# EAGLE library part XBEE-BREAKOUT (library RocketControlBoard)
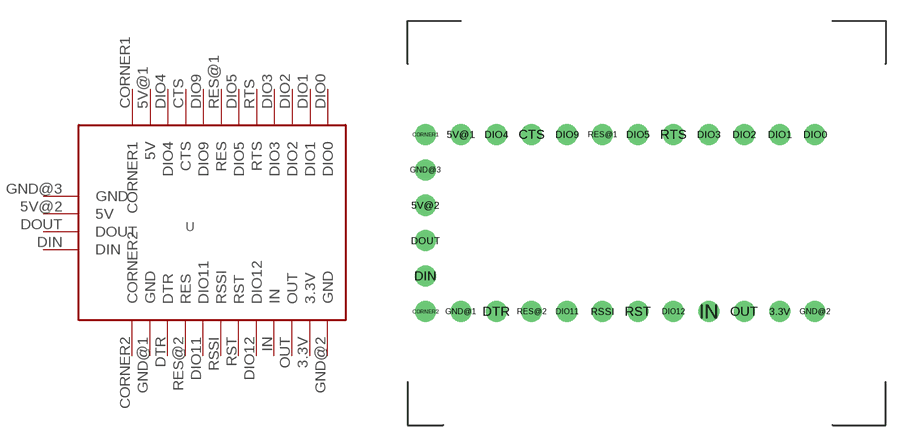
[diagram p14: symbol with the pads of XBEE-BREAKOUT; footprint XBEE-BREAKOUT]

Designator prefix -

## XBEE-BREAKOUT  [XBEE-BREAKOUT]
3.3V  3.3V
5V@1  5V
5V@2  5V
CORNER1  CORNER1
CORNER2  CORNER2
CTS  CTS
DIN  DIN
DIO0  DIO0
DIO1  DIO1
DIO2  DIO2
DIO3  DIO3
DIO4  DIO4
DIO5  DIO5
DIO9  DIO9
DIO11  DIO11
DIO12  DIO12
DOUT  DOUT
DTR  DTR
GND@1  GND
GND@2  GND
GND@3  GND
IN  IN
OUT  OUT
RES@1  RES
RES@2  RES
RSSI  RSSI
RST  RST
RTS  RTS

## Footprint XBEE-BREAKOUT (pad centres in mm)
drill 1: 3.3V 25.4,-6.35; 5V@1 2.54,6.35; 5V@2 0,1.27; CORNER1 0,6.35; CORNER2 0,-6.35; CTS 7.62,6.35; DIN 0,-3.81; DIO0 27.94,6.35; DIO1 25.4,6.35; DIO2 22.86,6.35; DIO3 20.32,6.35; DIO4 5.08,6.35; DIO5 15.24,6.35; DIO9 10.16,6.35; DIO11 10.16,-6.35; DIO12 17.78,-6.35; DOUT 0,-1.27; DTR 5.08,-6.35; GND@1 2.54,-6.35; GND@2 27.94,-6.35; GND@3 0,3.81; IN 20.32,-6.35; OUT 22.86,-6.35; RES@1 12.7,6.35; RES@2 7.62,-6.35; RSSI 12.7,-6.35; RST 15.24,-6.35; RTS 17.78,6.35